# Altium footprint library LABLIB.PcbLib: 95 footprints (part 2 of 6)
Each footprint in its own frame and in the unit in brackets; x right, y up, seen from the top. Pads: shape width x height; smd on the part's side, far side on the other; paste and mask are expansions set on the pad; w line width, h text height; cw(c..) or ccw(c..) is an arc to the next point about the centre after c.
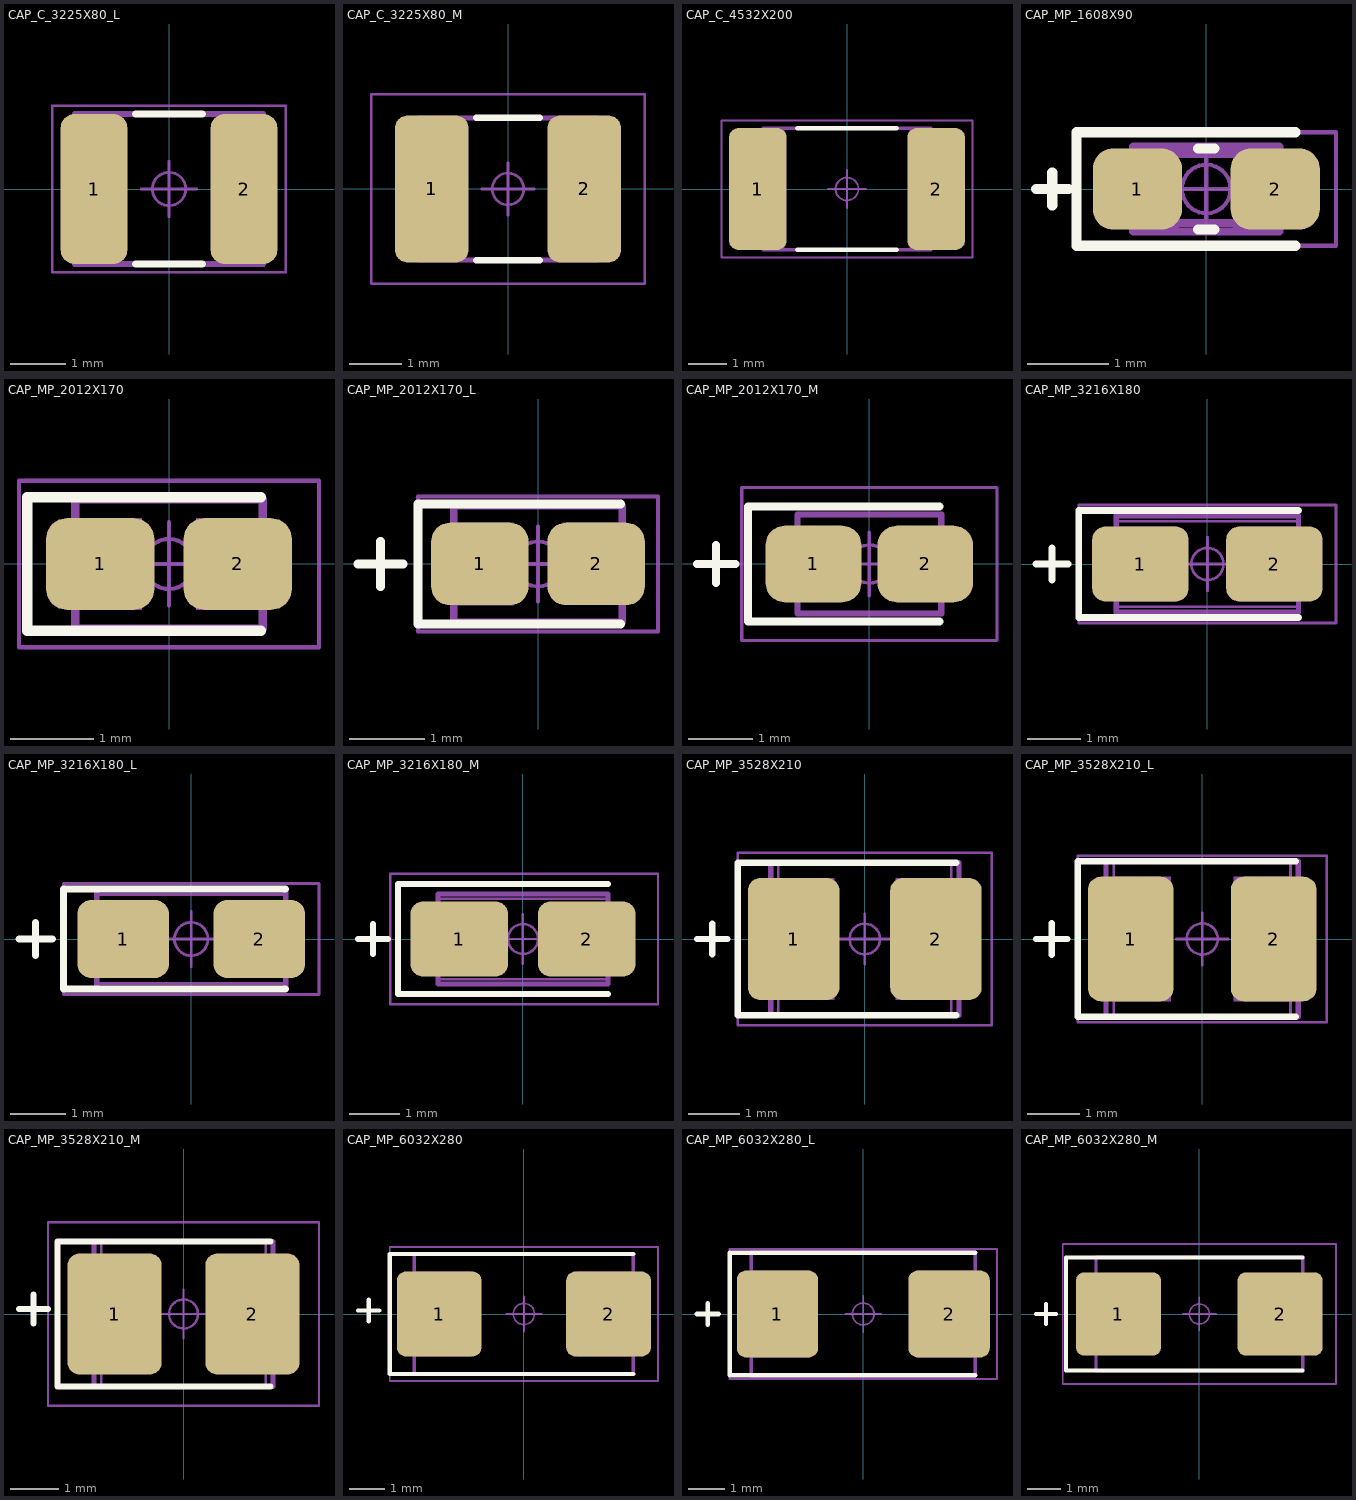
[diagram p1: the footprints below, top view; thin cyan lines are the x and y axes]

## CAP_C_3225X80_L [mm] "Chip Capacitor, 2-Leads, Body 3.20x2.50mm, IPC Medium Density"
height 0.75
pads (2):
  rrect41% 1.2x2.7 smd: 1(-1.35,0) 2(1.35,0)
Top Overlay:
  lines w0.125: -0.6,-1.35 0.6,-1.35 ; -0.6,1.35 0.6,1.35
Top Assembly:
  lines w0.1: -1.7,-1.35 1.7,-1.35 1.7,1.35 -1.7,1.35 -1.7,-1.35
  text "'.Designator'" at -3.952,-0.622 h1.5
Top Courtyard:
  lines w0.05: -2.1,-1.5 2.1,-1.5 2.1,1.5 -2.1,1.5 -2.1,-1.5
Top Component Outline:
  rectangle: -1.7,-1.35 -0.95,1.35
  region: 1.7,1.35 0.95,1.35 0.95,-1.35 1.7,-1.35
  lines w0.05: -1.7,-1.35 1.7,-1.35 1.7,1.35 -1.7,1.35 -1.7,-1.35
Top Component Center:
  circle w0.05: c0,0 r0.3
  lines w0.05: -0.5,0 0.5,0 ; 0,-0.5 0,0.5
3D body "CAPC3225X80_L.step": height 0.75, standoff 0, extent -1.7,-1.35 1.7,1.35

## CAP_C_3225X80_M [mm] "Chip Capacitor, 2-Leads, Body 3.20x2.50mm, IPC Medium Density"
height 0.75
pads (2):
  rrect35% 1.4x2.8 smd: 1(-1.45,0) 2(1.45,0)
Top Overlay:
  lines w0.125: -0.6,-1.35 0.6,-1.35 ; -0.6,1.35 0.6,1.35
Top Assembly:
  lines w0.1: -1.7,-1.35 -1.7,1.35 1.7,1.35 1.7,-1.35 -1.7,-1.35
  text "'.Designator'" at -3.952,-0.622 h1.5
Top Courtyard:
  lines w0.05: -2.6,-1.8 -2.6,1.8 2.6,1.8 2.6,-1.8 -2.6,-1.8
Top Component Outline:
  region: 1.7,1.35 0.95,1.35 0.95,-1.35 1.7,-1.35
  rectangle: -1.7,-1.35 -0.95,1.35
  lines w0.05: -1.7,-1.35 1.7,-1.35 1.7,1.35 -1.7,1.35 -1.7,-1.35
Top Component Center:
  circle w0.05: c0,0 r0.3
  lines w0.05: -0.5,0 0.5,0 ; 0,-0.5 0,0.5
3D body "CAPC3225X80_M.step": height 0.75, standoff 0, extent -1.7,-1.35 1.7,1.35

## CAP_C_4532X200 [mm] "Chip Capacitor, 2-Leads, Body 4.50x3.20mm, IPC Medium Density"
height 0.75
pads (2):
  rrect32% 1.52x3.2 smd: 1(-2.345,0) 2(2.345,0)
Top Overlay:
  lines w0.125: -1.3,-1.6 1.3,-1.6 ; -1.3,1.6 1.3,1.6
Top Assembly:
  lines w0.1: -2.2,-1.6 2.2,-1.6 2.2,1.6 -2.2,1.6 -2.2,-1.6
  text "'.Designator'" at -3.952,-0.622 h1.5
Top Courtyard:
  lines w0.05: -3.3,-1.8 -3.3,1.8 3.3,1.8 3.3,-1.8 -3.3,-1.8
Top Component Outline:
  region: 2.25,1.6 1.65,1.6 1.65,-1.6 2.25,-1.6
  rectangle: -2.25,-1.6 -1.65,1.6
  lines w0.05: -2.2,-1.6 -2.2,1.6 2.2,1.6 2.2,-1.6 -2.2,-1.6
Top Component Center:
  circle w0.05: c0,0 r0.3
  lines w0.05: -0.5,0 0.5,0 ; 0,-0.5 0,0.5
3D body "CAPC3225X80.step": height 0.75, standoff 0, extent -1.7,-1.35 1.7,1.35

## CAP_MP_1608X90 [mm] "Molded Capacitor, 2-Leads, Body 1.60x0.85mm, IPC Medium Density"
height 0.9
pads (2):
  rrect50% 1.1x1 smd mask+0.102: 1(-0.85,0) 2(0.85,0)
Top Overlay:
  lines w0.125: -2.1,0 -1.7,0 ; -1.9,-0.2 -1.9,0.2 ; -0.1,-0.5 0.1,-0.5 ; -0.1,0.5 0.1,0.5 ; 1.1,-0.7 -1.6,-0.7 -1.6,0.7 1.1,0.7
Top Assembly:
  rectangle: -0.9,-0.525 -0.658,0.525
  lines w0.1: -0.9,-0.525 0.9,-0.525 0.9,0.525 -0.9,0.525 -0.9,-0.525
  text "'.Designator'" at -3.952,-0.622 h1.5
Top Courtyard:
  lines w0.05: -1.6,-0.7 1.1,-0.7 1.6,-0.7 1.6,0.7 0,0.7 -1.6,0.7 -1.6,-0.7
Top Component Outline:
  region: 0.83,-0.471 0.331,-0.471 0.331,0.48 0.83,0.48
  region: -0.338,-0.47 -0.839,-0.47 -0.839,0.48 -0.338,0.48
  lines w0.102: -0.356,-0.419 0.356,-0.419 ; -0.356,0.432 0.356,0.432
Top Component Center:
  circle w0.05: c0,0 r0.3
  lines w0.05: -0.5,0 0.5,0 ; 0,-0.5 0,0.5
3D body "TACL335M003RTA.STEP": height 1, standoff 0, extent -0.8,-0.425 0.8,0.425

## CAP_MP_2012X170 [mm] "Molded Capacitor, 2-Leads, Body 2.05x1.40mm, IPC Medium Density"
height 1.5
pads (2):
  rrect45% 1.3x1.1 smd: 1(-0.825,0) 2(0.825,0)
Top Overlay:
  lines w0.125: 1.1,-0.8 -1.7,-0.8 -1.7,0.8 1.1,0.8
Top Assembly:
  lines w0.1: -1.125,-0.775 1.125,-0.775 1.125,0.775 -1.125,0.775 -1.125,-0.775
  text "'.Designator'" at -3.952,-0.622 h1.5
Top Courtyard:
  lines w0.05: -1.8,-1 1.8,-1 1.8,1 -1.8,1 -1.8,-1
Top Component Outline:
  region: 1.125,0.55 0.325,0.55 0.325,-0.55 1.125,-0.55
  rectangle: -1.125,-0.55 -0.325,0.55
  lines w0.05: -1.125,-0.775 -1.125,0.775 1.125,0.775 1.125,-0.775 -1.125,-0.775
Top Component Center:
  circle w0.05: c0,0 r0.3
  lines w0.05: -0.5,0 0.5,0 ; 0,-0.5 0,0.5
3D body "CAP_TPS-P_KAV.step": height 1.75, standoff 0, extent -1.13,-0.775 1.13,0.775

## CAP_MP_2012X170_L [mm] "Molded Capacitor, 2-Leads, Body 2.05x1.40mm, IPC Medium Density"
height 1.5
pads (2):
  rrect45% 1.3x1.1 smd: 1(-0.775,0) 2(0.775,0)
Top Overlay:
  lines w0.125: -2.4,0 -1.8,0 ; -2.1,-0.3 -2.1,0.3 ; 1.1,-0.8 -1.6,-0.8 -1.6,0.8 1.1,0.8
Top Assembly:
  lines w0.1: -1.125,-0.775 1.125,-0.775 1.125,0.775 -1.125,0.775 -1.125,-0.775
  text "'.Designator'" at -3.952,-0.622 h1.5
Top Courtyard:
  lines w0.05: -1.6,-0.9 1.6,-0.9 1.6,0.9 -1.6,0.9 -1.6,-0.9
Top Component Outline:
  region: 1.125,0.55 0.325,0.55 0.325,-0.55 1.125,-0.55
  rectangle: -1.125,-0.55 -0.325,0.55
  lines w0.05: -1.125,-0.775 -1.125,0.775 1.125,0.775 1.125,-0.775 -1.125,-0.775
Top Component Center:
  circle w0.05: c0,0 r0.3
  lines w0.05: -0.5,0 0.5,0 ; 0,-0.5 0,0.5
3D body "CAP_TPS-P_KAV.step": height 1.75, standoff 0, extent -1.13,-0.775 1.13,0.775

## CAP_MP_2012X170_M [mm] "Molded Capacitor, 2-Leads, Body 2.05x1.40mm, IPC Medium Density"
height 1.5
pads (2):
  rrect50% 1.5x1.2 smd: 1(-0.875,0) 2(0.875,0)
Top Overlay:
  lines w0.125: -2.7,0 -2.1,0 ; -2.4,-0.3 -2.4,0.3 ; 1.1,-0.9 -1.9,-0.9 -1.9,0.9 1.1,0.9
Top Assembly:
  lines w0.1: -1.125,-0.775 1.125,-0.775 1.125,0.775 -1.125,0.775 -1.125,-0.775
  text "'.Designator'" at -3.952,-0.622 h1.5
Top Courtyard:
  lines w0.05: -2,-1.2 2,-1.2 2,1.2 -2,1.2 -2,-1.2
Top Component Outline:
  region: 1.125,0.55 0.325,0.55 0.325,-0.55 1.125,-0.55
  rectangle: -1.125,-0.55 -0.325,0.55
  lines w0.05: -1.125,-0.775 -1.125,0.775 1.125,0.775 1.125,-0.775 -1.125,-0.775
Top Component Center:
  circle w0.05: c0,0 r0.3
  lines w0.05: -0.5,0 0.5,0 ; 0,-0.5 0,0.5
3D body "CAP_TPS-P_KAV.step": height 1.75, standoff 0, extent -1.13,-0.775 1.13,0.775

## CAP_MP_3216X180 [mm] "Molded Capacitor, 2-Leads, Body 3.20x1.65mm, IPC Medium Density"
height 1.8
pads (2):
  rrect35% 1.8x1.4 smd: 1(-1.25,0) 2(1.25,0)
Top Overlay:
  lines w0.125: -3.2,0 -2.6,0 ; -2.9,-0.3 -2.9,0.3 ; 1.7,-1 -2.4,-1 -2.4,1 1.7,1
Top Assembly:
  lines w0.1: -1.7,-0.9 1.7,-0.9 1.7,0.9 -1.7,0.9 -1.7,-0.9
  text "'.Designator'" at -4.217,-0.663 h1.6
Top Courtyard:
  lines w0.05: -2.4,-1.1 2.4,-1.1 2.4,1.1 -2.4,1.1 -2.4,-1.1
Top Component Outline:
  region: 1.7,0.7 0.6,0.7 0.6,-0.7 1.7,-0.7
  rectangle: -1.7,-0.7 -0.6,0.7
  lines w0.05: -1.7,-0.8 -1.7,0.8 1.7,0.8 1.7,-0.8 -1.7,-0.8
Top Component Center:
  circle w0.05: c0,0 r0.3
  lines w0.05: -0.5,0 0.5,0 ; 0,-0.5 0,0.5
3D body "CAPMP34X16_18N_KEM.step": height 1.85, standoff 0, extent -1.7,-0.8 1.7,0.8

## CAP_MP_3216X180_L [mm] "Molded Capacitor, 2-Leads, Body 3.20x1.65mm, IPC Medium Density"
height 1.8
pads (2):
  rrect35% 1.65x1.4 smd: 1(-1.225,0) 2(1.225,0)
Top Overlay:
  lines w0.125: -3.1,0 -2.5,0 ; -2.8,-0.3 -2.8,0.3 ; 1.7,-0.9 -2.3,-0.9 -2.3,0.9 1.7,0.9
Top Assembly:
  lines w0.1: -1.7,-0.9 1.7,-0.9 1.7,0.9 -1.7,0.9 -1.7,-0.9
  text "'.Designator'" at -4.217,-0.663 h1.6
Top Courtyard:
  lines w0.05: -2.3,-1 2.3,-1 2.3,1 -2.3,1 -2.3,-1
Top Component Outline:
  rectangle: -1.7,-0.7 -0.6,0.7
  region: 1.7,0.7 0.6,0.7 0.6,-0.7 1.7,-0.7
  lines w0.05: -1.7,-0.8 1.7,-0.8 1.7,0.8 -1.7,0.8 -1.7,-0.8
Top Component Center:
  circle w0.05: c0,0 r0.3
  lines w0.05: -0.5,0 0.5,0 ; 0,-0.5 0,0.5
3D body "CAPMP34X16_18N_KEM.step": height 1.85, standoff 0, extent -1.7,-0.8 1.7,0.8

## CAP_MP_3216X180_M [mm] "Molded Capacitor, 2-Leads, Body 3.20x1.65mm, IPC Medium Density"
height 1.8
pads (2):
  rrect33% 1.95x1.5 smd: 1(-1.275,0) 2(1.275,0)
Top Overlay:
  lines w0.125: -3.3,0 -2.7,0 ; -3,-0.3 -3,0.3 ; 1.7,-1.1 -2.5,-1.1 -2.5,1.1 1.7,1.1
Top Assembly:
  lines w0.1: -1.7,-0.9 1.7,-0.9 1.7,0.9 -1.7,0.9 -1.7,-0.9
  text "'.Designator'" at -4.217,-0.663 h1.6
Top Courtyard:
  lines w0.05: -2.65,-1.3 2.7,-1.3 2.7,1.3 -2.65,1.3 -2.65,-1.3
Top Component Outline:
  region: 1.7,0.7 0.6,0.7 0.6,-0.7 1.7,-0.7
  rectangle: -1.7,-0.7 -0.6,0.7
  lines w0.05: -1.7,-0.8 -1.7,0.8 1.7,0.8 1.7,-0.8 -1.7,-0.8
Top Component Center:
  circle w0.05: c0,0 r0.3
  lines w0.05: -0.5,0 0.5,0 ; 0,-0.5 0,0.5
3D body "CAPMP34X16_18N_KEM.step": height 1.85, standoff 0, extent -1.7,-0.8 1.7,0.8

## CAP_MP_3528X210 [mm] "Molded Capacitor, 2-Leads, Body 3.50x2.85mm, IPC Medium Density"
height 2.1
pads (2):
  rrect27% 1.8x2.4 smd: 1(-1.4,0) 2(1.4,0)
Top Overlay:
  lines w0.125: -3.3,0 -2.7,0 ; -3,-0.3 -3,0.3 ; 1.8,-1.5 -2.5,-1.5 -2.5,1.5 1.8,1.5
Top Assembly:
  lines w0.1: -1.85,-1.5 1.85,-1.5 1.85,1.5 -1.85,1.5 -1.85,-1.5
  text "'.Designator'" at -4.217,-0.663 h1.6
Top Courtyard:
  lines w0.05: -2.5,-1.7 -2.5,1.7 2.5,1.7 2.5,-1.7 -2.5,-1.7
Top Component Outline:
  rectangle: -1.7,-1.2 -0.6,1.2
  region: 1.7,1.2 0.6,1.2 0.6,-1.2 1.7,-1.2
  lines w0.05: -1.7,-1.5 1.7,-1.5 1.7,1.5 -1.7,1.5 -1.7,-1.5
Top Component Center:
  circle w0.05: c0,0 r0.3
  lines w0.05: -0.5,0 0.5,0 ; 0,-0.5 0,0.5
3D body "F93-C_AVX.step": height 2.16, standoff 0, extent -1.702,-1.499 1.702,1.499

## CAP_MP_3528X210_L [mm] "Molded Capacitor, 2-Leads, Body 3.50x2.85mm, IPC Medium Density"
height 2.1
pads (2):
  rrect30% 1.65x2.4 smd: 1(-1.375,0) 2(1.375,0)
Top Overlay:
  lines w0.125: -3.2,0 -2.6,0 ; -2.9,-0.3 -2.9,0.3 ; 1.8,-1.5 -2.4,-1.5 -2.4,1.5 1.8,1.5
Top Assembly:
  lines w0.1: -1.85,-1.5 -1.85,1.5 1.85,1.5 1.85,-1.5 -1.85,-1.5
  text "'.Designator'" at -4.217,-0.663 h1.6
Top Courtyard:
  lines w0.05: -2.4,-1.6 -2.4,1.6 2.4,1.6 2.4,-1.6 -2.4,-1.6
Top Component Outline:
  rectangle: -1.7,-1.2 -0.6,1.2
  region: 1.7,1.2 0.6,1.2 0.6,-1.2 1.7,-1.2
  lines w0.05: -1.7,-1.5 1.7,-1.5 1.7,1.5 -1.7,1.5 -1.7,-1.5
Top Component Center:
  circle w0.05: c0,0 r0.3
  lines w0.05: -0.5,0 0.5,0 ; 0,-0.5 0,0.5
3D body "F93-C_AVX.step": height 2.16, standoff 0, extent -1.702,-1.499 1.702,1.499

## CAP_MP_3528X210_M [mm] "Molded Capacitor, 2-Leads, Body 3.50x2.85mm, IPC Medium Density"
height 2.1
pads (2):
  rrect25% 1.95x2.5 smd: 1(-1.425,0) 2(1.425,0)
Top Overlay:
  lines w0.125: -3.4,0.1 -2.8,0.1 ; -3.1,-0.2 -3.1,0.4 ; 1.8,-1.5 -2.6,-1.5 -2.6,1.5 1.8,1.5
Top Assembly:
  lines w0.1: -1.85,-1.5 -1.85,1.5 1.85,1.5 1.85,-1.5 -1.85,-1.5
  text "'.Designator'" at -4.217,-0.663 h1.6
Top Courtyard:
  lines w0.05: -2.8,-1.9 -2.8,1.9 2.8,1.9 2.8,-1.9 -2.8,-1.9
Top Component Outline:
  rectangle: -1.7,-1.2 -0.6,1.2
  region: 1.7,1.2 0.6,1.2 0.6,-1.2 1.7,-1.2
  lines w0.05: -1.7,-1.5 1.7,-1.5 1.7,1.5 -1.7,1.5 -1.7,-1.5
Top Component Center:
  circle w0.05: c0,0 r0.3
  lines w0.05: -0.5,0 0.5,0 ; 0,-0.5 0,0.5
3D body "F93-C_AVX.step": height 2.16, standoff 0, extent -1.702,-1.499 1.702,1.499

## CAP_MP_6032X280 [mm] "Molded Capacitor, 2-Leads, Body 6.00x3.25mm, IPC Medium Density"
height 2.8
pads (2):
  rrect20% 2.4x2.4 smd: 1(-2.4,0) 2(2.4,0)
Top Overlay:
  lines w0.125: -4.7,0.1 -4.1,0.1 ; -4.4,-0.2 -4.4,0.4 ; 3.1,-1.7 -3.8,-1.7 -3.8,1.7 3.1,1.7
Top Assembly:
  lines w0.1: -3.1,-1.7 -3.1,1.7 3.1,1.7 3.1,-1.7 -3.1,-1.7
  text "'.Designator'" at -3.952,-0.622 h1.5
Top Courtyard:
  lines w0.05: -3.8,-1.9 -3.8,1.9 3.8,1.9 3.8,-1.9 -3.8,-1.9
Top Component Outline:
  rectangle: -3.1,-1.2 -1.5,1.2
  region: 3.1,1.2 1.5,1.2 1.5,-1.2 3.1,-1.2
  lines w0.05: -3.1,-1.7 3.1,-1.7 3.1,1.7 -3.1,1.7 -3.1,-1.7
Top Component Center:
  circle w0.05: c0,0 r0.3
  lines w0.05: -0.5,0 0.5,0 ; 0,-0.5 0,0.5
3D body "TAJC_AVX.step": height 2.85, standoff 0, extent -3.099,-1.702 3.099,1.702

## CAP_MP_6032X280_L [mm] "Molded Capacitor, 2-Leads, Body 6.00x3.25mm, IPC Medium Density"
height 2.8
pads (2):
  rrect22% 2.25x2.4 smd: 1(-2.375,0) 2(2.375,0)
Top Overlay:
  lines w0.125: -4.6,0 -4,0 ; -4.3,-0.3 -4.3,0.3 ; 3.1,-1.7 -3.7,-1.7 -3.7,1.7 3.1,1.7
Top Assembly:
  lines w0.1: -3.1,-1.7 -3.1,1.7 3.1,1.7 3.1,-1.7 -3.1,-1.7
  text "'.Designator'" at -3.952,-0.622 h1.5
Top Courtyard:
  lines w0.05: -3.7,-1.8 -3.7,1.8 3.7,1.8 3.7,-1.8 -3.7,-1.8
Top Component Outline:
  rectangle: -3.1,-1.2 -1.5,1.2
  region: 3.1,1.2 1.5,1.2 1.5,-1.2 3.1,-1.2
  lines w0.05: -3.1,-1.7 3.1,-1.7 3.1,1.7 -3.1,1.7 -3.1,-1.7
Top Component Center:
  circle w0.05: c0,0 r0.3
  lines w0.05: -0.5,0 0.5,0 ; 0,-0.5 0,0.5
3D body "TAJC_AVX.step": height 2.85, standoff 0, extent -3.099,-1.702 3.099,1.702

## CAP_MP_6032X280_M [mm] "Molded Capacitor, 2-Leads, Body 6.00x3.25mm, IPC Medium Density"
height 2.8
pads (2):
  rrect19% 2.55x2.5 smd: 1(-2.425,0) 2(2.425,0)
Top Overlay:
  lines w0.125: -4.9,0 -4.3,0 ; -4.6,-0.3 -4.6,0.3 ; 3.1,-1.7 -4,-1.7 -4,1.7 3.1,1.7
Top Assembly:
  lines w0.1: -3.1,-1.7 -3.1,1.7 3.1,1.7 3.1,-1.7 -3.1,-1.7
  text "'.Designator'" at -3.952,-0.622 h1.5
Top Courtyard:
  lines w0.05: -4.1,-2.1 -4.1,2.1 4.1,2.1 4.1,-2.1 -4.1,-2.1
Top Component Outline:
  region: 3.1,1.2 1.5,1.2 1.5,-1.2 3.1,-1.2
  rectangle: -3.1,-1.2 -1.5,1.2
  lines w0.05: -3.1,-1.7 -3.1,1.7 3.1,1.7 3.1,-1.7 -3.1,-1.7
Top Component Center:
  circle w0.05: c0,0 r0.3
  lines w0.05: -0.5,0 0.5,0 ; 0,-0.5 0,0.5
3D body "TAJC_AVX.step": height 2.85, standoff 0, extent -3.099,-1.702 3.099,1.702